# EAGLE library part USB_TYPE-C (library 0_Library-Rev2)
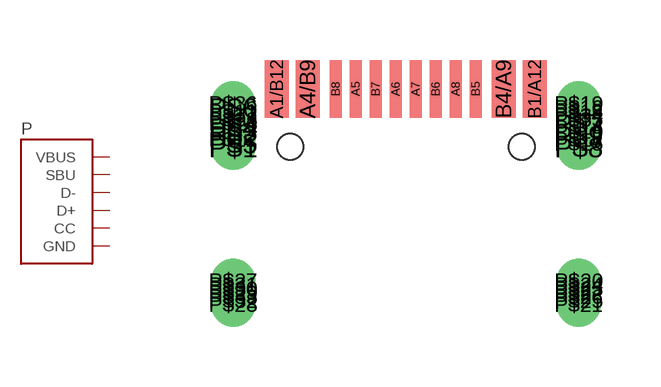
[diagram p0: symbol with the pads of TYPE-C; footprint TYPE-C]

Designator prefix P

## USB_TYPE-C  [TYPE-C]
A1/B12  GND
A4/B9  VBUS
A5  CC
A6  D+
A7  D-
A8  SBU
B1/A12  GND
B4/A9  VBUS
B5  CC
B6  D+
B7  D-
B8  SBU
P$1  GND
P$2  GND
P$3  GND
P$4  GND
P$5  GND
P$6  GND
P$7  GND
P$8  GND
P$9  GND
P$10  GND
P$11  GND
P$12  GND
P$13  GND
P$14  GND
P$15  GND
P$16  GND
P$17  GND
P$18  GND
P$19  GND
P$20  GND
P$21  GND
P$22  GND
P$23  GND
P$24  GND
P$25  GND
P$26  GND
P$27  GND
P$28  GND
P$29  GND
P$30  GND
P$31  GND
P$32  GND
P$33  GND
P$34  GND
P$35  GND
P$36  GND
P$37  GND
P$38  GND

## Footprint TYPE-C (pad centres in mm)
smd 0.6 x 1.45: A1/B12 -3.225,7.695; A4/B9 -2.45,7.695; B1/A12 3.225,7.695; B4/A9 2.45,7.695
smd 0.3 x 1.45: A5 -1.25,7.695; A6 -0.25,7.695; A7 0.25,7.695; A8 1.25,7.695; B5 1.75,7.695; B6 0.75,7.695; B7 -0.75,7.695; B8 -1.75,7.695
drill 0.6 pad 1: P$1 -4.32,6.23; P$2 -4.32,6.53; P$3 -4.32,6.63; P$4 -4.32,6.73; P$5 -4.32,6.33; P$6 -4.32,7.23; P$7 4.32,6.83; P$8 4.32,6.23; P$9 4.32,6.53; P$10 4.32,6.63; P$11 -4.32,7.13; P$12 -4.32,6.43; P$13 -4.32,6.83; P$14 4.32,6.73; P$15 4.32,6.33; P$16 4.32,7.23; P$17 4.32,6.43; P$18 4.32,7.13; P$19 4.32,7.33; P$20 4.32,2.9; P$21 4.32,2.3; P$22 4.32,2.6; P$23 4.32,2.7; P$24 4.32,2.8; P$25 4.32,2.4; P$26 4.32,2.5; P$27 -4.32,2.9; P$28 -4.32,2.3; P$29 -4.32,2.6; P$30 -4.32,2.7; P$31 -4.32,2.8; P$32 -4.32,2.4; P$33 -4.32,2.5; P$34 4.32,7.03; P$35 4.32,6.93; P$36 -4.32,7.33; P$37 -4.32,7.03; P$38 -4.32,6.93
hole 0.65 at -2.89,6.25
hole 0.65 at 2.89,6.25